# Altium schematic symbol library Analog.SchLib: 140 symbols (part 2 of 2)
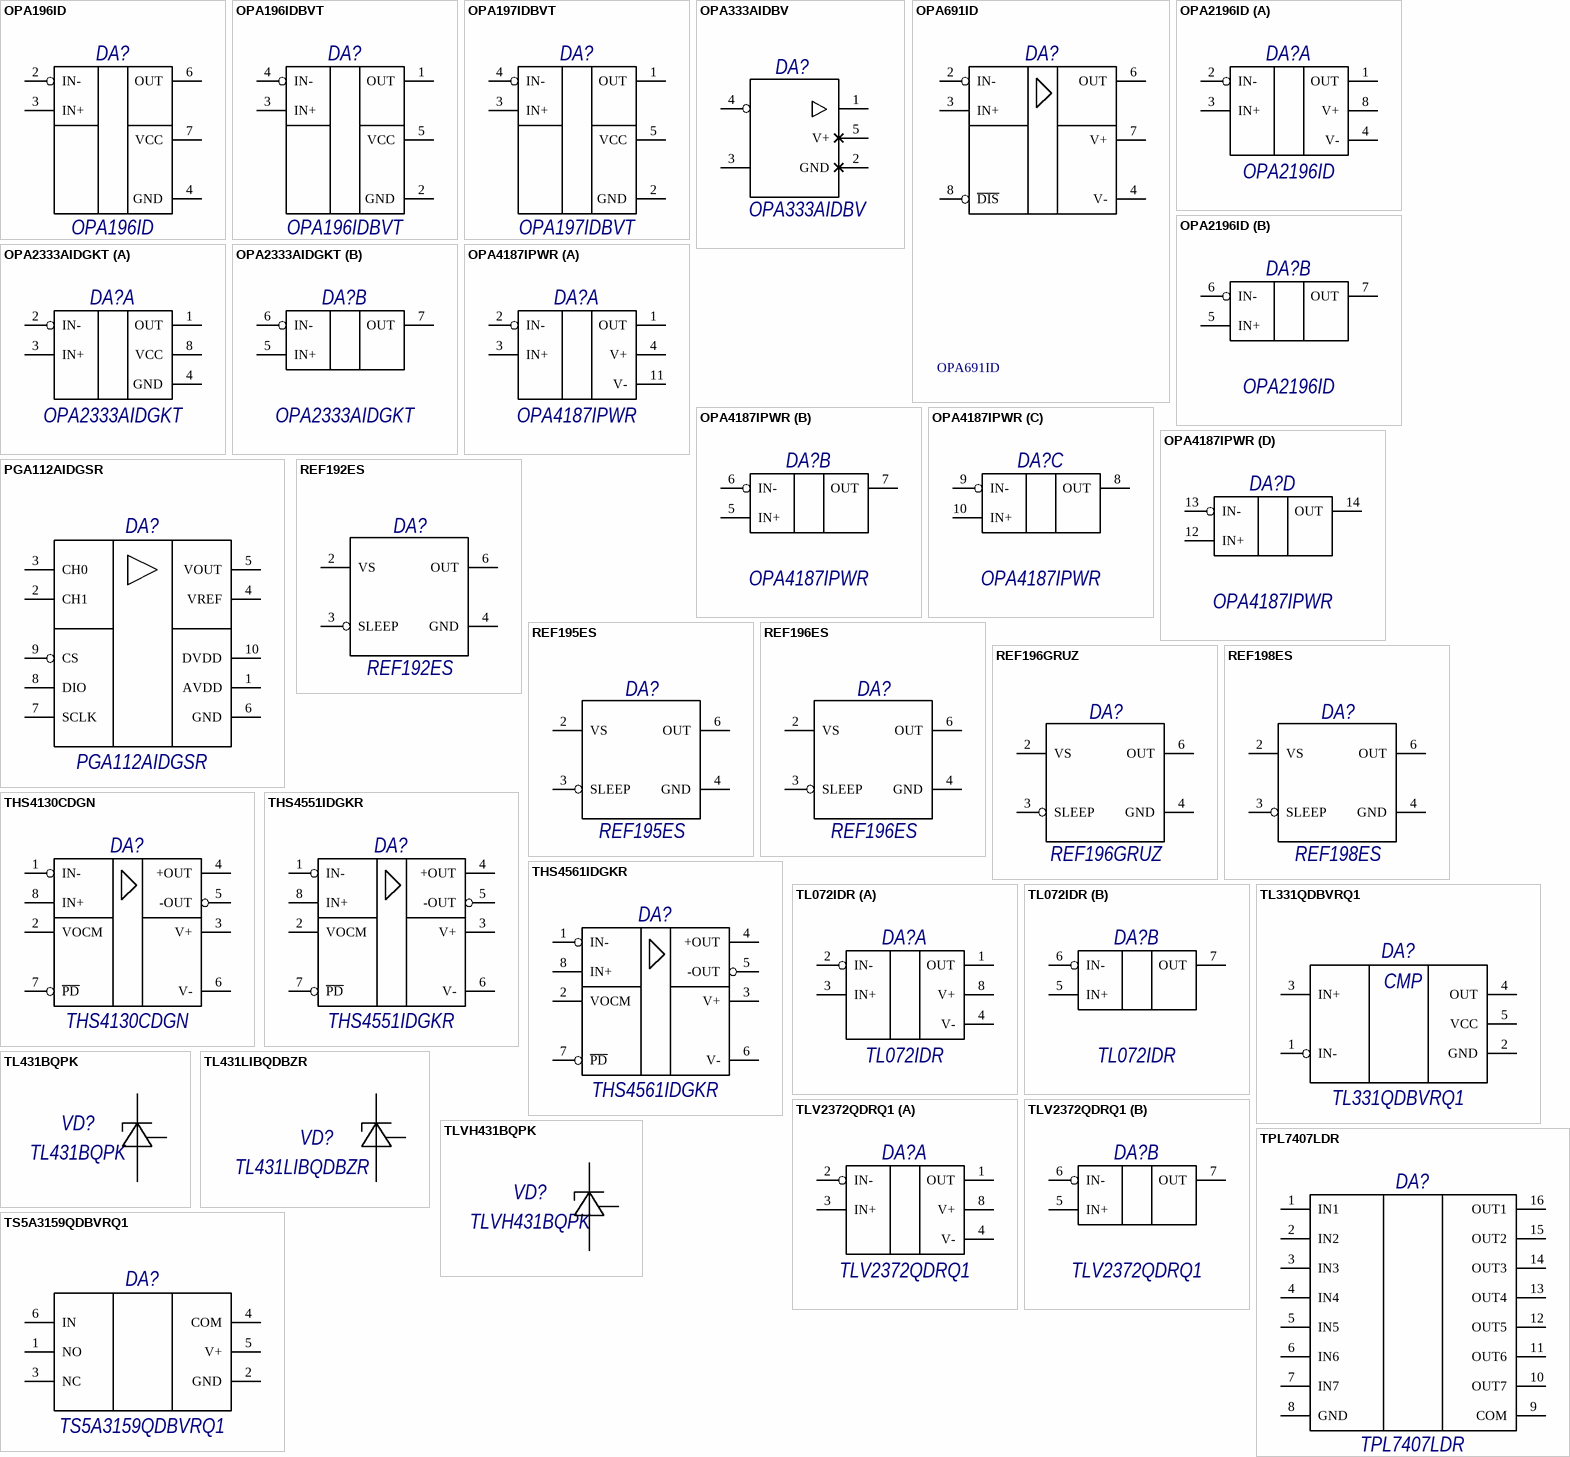
[diagram p9: symbols OPA196ID to TS5A3159QDBVRQ1]

## OPA197IDBVT
designator DA?, comment PartNumber: OPA197IDBVT  (hidden comment: Микросхема OPA197IDBVT фирма "Texas Instruments")
General Purpose Amplifier 1 Circuit Rail-to-Rail SOT-23-5; Prefix: DA; Manufacturer: Texas Instruments; Pattern: SOT-23-5; GOST: Микросхема OPA197IDBVT фирма "Texas Instruments"
footprint SOT-23-5
footprint SOT-23-5
pins: 1 OUT, 2 GND (power), 3 IN+, 4 IN-, 5 VCC (power)

## OPA333AIDBV
designator DA?, comment PartNumber: OPA333AIDBV  (hidden comment: Микросхема OPA333AIDBV фирма "Texas Instruments")
0.05  μ  V/  °  C max, SINGLE-SUPPLY  CMOS OPERATIONAL AMPLIFIERS  Zerø-Drift Series; GOST: Микросхема OPA333AIDBV фирма "Texas Instruments"
footprint SOT-23-5
pins: 1, 2 GND, 3, 4, 5 V+

## OPA691ID
designator DA?, comment PartNumber: OPA691ID  (hidden comment: Микросхема OPA691ID фирма "Texas Instruments")
Wideband, Current Feedback, Amplifier With Disable; Pattern: SO8; Manufacturer: Texas Instruments; GOST: Микросхема OPA691ID фирма "Texas Instruments"
footprint SO-8 (5x4mm H=1.75mm)
pins: 1 NC hidden, 2 IN-, 3 IN+, 4 V-, 5 NC hidden, 6 OUT, 7 V+, 8 ~{DIS}

## OPA2196ID
designator DA?, comment PartNumber: OPA2196ID  (hidden comment: Микросхема OPA2196ID фирма "Texas Instruments")
36V, Low Power, All-Purpose Amplifier with MUX-Friendly Input 8-SOIC -40 to 125; Pattern: SO-8; Prefix: DA; Manufacturer: Texas Instruments; GOST: Микросхема OPA2196ID фирма "Texas Instruments"
footprint SO-8 (5x4mm H=1.75mm)
part A pins: 1 OUT, 2 IN-, 3 IN+, 4 V- (power), 8 V+ (power)
part B pins: 5 IN+, 6 IN-, 7 OUT

## OPA2333AIDGKT
designator DA?, comment PartNumber: OPA2333AIDGKT  (hidden comment: Микросхема OPA2333AIDGKT фирма "Texas Instruments")
Dual, Precision Rail-to-Rail Input & Output Operational Amplifiers, 0.35MHz, zero drift; Prefix: DA; GOST: Микросхема OPA2333AIDGKT фирма "Texas Instruments"
footprint DGK (S-PDSO-G8) (VSSOP-8 (MSOP-8) Texas Instruments Korp=3.1x3.1mm Pitch 0.65mm)
part A pins: 1 OUT, 2 IN-, 3 IN+, 4 GND (power), 8 VCC (power)
part B pins: 5 IN+, 6 IN-, 7 OUT

## OPA4187IPWR
designator DA?, comment PartNumber: OPA4187IPWR  (hidden comment: Микросхема OPA4187IPWR фирма "Texas Instruments")
0.001-μV/°C Drift, Low Power,Rail-to-Rail Output 36-V Operational Amplifiers Zero-DriftSeries; Prefix: DA; GOST: Микросхема OPA4187IPWR фирма "Texas Instruments"
footprint PW (R-PDSO-G14) (TSSOP-14, 6.6x5.1mm, pitch 0.65mm, H=1.2mm)
part A pins: 1 OUT, 2 IN-, 3 IN+, 4 V+ (power), 11 V- (power)
part B pins: 5 IN+, 6 IN-, 7 OUT
part C pins: 8 OUT, 9 IN-, 10 IN+
part D pins: 12 IN+, 13 IN-, 14 OUT

## PGA112AIDGSR
designator DA?, comment PartNumber: PGA112AIDGSR  (hidden comment: Микросхема PGA112AIDGSR фирма "Texas Instruments")
Zerø-Drift Programmable Gain Amplifier With Mux; GOST: Микросхема PGA112AIDGSR фирма "Texas Instruments"
footprint DGS (S-PDSO-G10) (VSSOP-10 (MSOP-10) Texas Instruments)
pins: 1 AVDD, 2 CH1, 3 CH0, 4 VREF, 5 VOUT, 6 GND, 7 SCLK, 8 DIO, 9 CS, 10 DVDD

## REF192ES
designator DA?, comment PartNumber: REF192ES  (hidden comment: Микросхема REF192ES фирма "Analog Devices")
2.5V Prec Micropwr LDO Low VRef; GOST: Микросхема REF192ES фирма "Analog Devices"
footprint SO-8 (5x4mm H=1.75mm)
pins: 2 VS, 3 SLEEP, 4 GND, 6 OUT

## REF195ES
designator DA?, comment PartNumber: REF195ES  (hidden comment: Микросхема REF195ES фирма "Analog Devices")
5V Prec Micropwr LDO Low VRef; GOST: Микросхема REF195ES фирма "Analog Devices"
footprint SO-8 (5x4mm H=1.75mm)
pins: 2 VS, 3 SLEEP, 4 GND, 6 OUT

## REF196ES
designator DA?, comment PartNumber: REF196ES  (hidden comment: Микросхема REF196ES фирма "Analog Devices")
3.3V Prec Micropwr LDO Low VRef; GOST: Микросхема REF196ES фирма "Analog Devices"
footprint SO-8 (5x4mm H=1.75mm)
pins: 2 VS, 3 SLEEP, 4 GND, 6 OUT

## REF196GRUZ
designator DA?, comment PartNumber: REF196GRUZ  (hidden comment: Микросхема REF196GRUZ фирма "Analog Devices")
Series Voltage Reference IC ±0.3% 30mA 8-TSSOP; GOST: Микросхема REF196GRUZ фирма "Analog Devices"
footprint TSSOP-8 (3.0x6.4mm H=1.2mm Pitch=0.65mm (RU-8 (AD)))
pins: 2 VS, 3 SLEEP, 4 GND, 6 OUT

## REF198ES
designator DA?, comment PartNumber: REF198ES  (hidden comment: Микросхема REF198ES фирма "Analog Devices")
4.096V Prec Micropwr LDO Low VRef; GOST: Микросхема REF198ES фирма "Analog Devices"
footprint SO-8 (5x4mm H=1.75mm)
pins: 2 VS, 3 SLEEP, 4 GND, 6 OUT

## THS4130CDGN
designator DA?, comment PartNumber: THS4130CDGN  (hidden comment: Микросхема THS4130CDGN фирма "Texas Instruments")
High-Speed, Low-Noise, Fully-Differential I/O Amplifier; Pattern: VSSOP8; Prefix: D?; Manufacturer: Texas Instruments; GOST: Микросхема THS4130CDGN фирма "Texas Instruments"
footprint DGN (S-PDSO-G8) (3.1x3.1mm, HVSSOP-8, MSOP-8 Power PAD, Texas Instruments)
pins: 1 IN-, 2 VOCM, 3 V+, 4 +OUT, 5 -OUT, 6 V-, 7 ~{PD}, 8 IN+

## THS4551IDGKR
designator DA?, comment PartNumber: THS4551IDGKR  (hidden comment: Микросхема THS4551IDGKR фирма "Texas Instruments")
Low-Noise,Precision,150-MHz,Fully DifferentialAmplifier; Pattern: VSSOP8; Prefix: D?; Manufacturer: Texas Instruments; GOST: Микросхема THS4551IDGKR фирма "Texas Instruments"
footprint DGK (S-PDSO-G8) (VSSOP-8 (MSOP-8) Texas Instruments Korp=3.1x3.1mm Pitch 0.65mm)
pins: 1 IN-, 2 VOCM, 3 V+, 4 +OUT, 5 -OUT, 6 V-, 7 ~{PD}, 8 IN+

## THS4561IDGKR
designator DA?, comment PartNumber: THS4561IDGKR  (hidden comment: Микросхема THS4561IDGKR фирма "Texas Instruments")
Low-Power, High Supply Range, 60-MHz, Fully Differential Amplifier; Pattern: VSSOP8; Prefix: D?; Manufacturer: Texas Instruments; GOST: Микросхема THS4561IDGKR фирма "Texas Instruments"
footprint DGK (S-PDSO-G8) (VSSOP-8 (MSOP-8) Texas Instruments Korp=3.1x3.1mm Pitch 0.65mm)
pins: 1 IN-, 2 VOCM, 3 V+, 4 +OUT, 5 -OUT, 6 V-, 7 ~{PD}, 8 IN+

## TL072IDR
designator DA?, comment PartNumber: TL072IDR  (hidden comment: Микросхема TL072IDR фирма "Texas Instruments")
Low-Noise FET-Input Operational Amplifiers, 8-SOIC, -40 to 125; Pattern: SO-8; Prefix: DA; Manufacturer: Texas Instruments; GOST: Микросхема TL072IDR фирма "Texas Instruments"
footprint SO-8 (5x4mm H=1.75mm)
part A pins: 1 OUT, 2 IN-, 3 IN+, 4 V- (power), 8 V+ (power)
part B pins: 5 IN+, 6 IN-, 7 OUT

## TL331QDBVRQ1
designator DA?, comment PartNumber: TL331QDBVRQ1  (hidden comment: Микросхема TL331QDBVRQ1 фирма "Texas Instruments")
Comparator Differential CMOS, MOS, Open-Collector, TTL SOT-23-5; GOST: Микросхема TL331QDBVRQ1 фирма "Texas Instruments"
footprint SOT-23-5
pins: 1 IN-, 2 GND, 3 IN+, 4 OUT, 5 VCC
text: CMP

## TL431BQPK
designator VD?
IC VREF SHUNT ADJ SOT89-3; Manufacturer: Texas Instruments; Voltage - Output (Max): 36V; Voltage - Output (Min/Fixed): 2.495V; Tolerance: ±0.5%; GOST: Стабилитрон TL431BQPK фирма "Texas Instruments"; PartNumber: TL431BQPK
footprint PK (R-PSSO-F3) (Dim 4.5mm*2.5mm H=1.6mm (SOT-89) TI)
pins: 1 2, 2 A, 3 C

## TL431LIBQDBZR
designator VD?, comment PartNumber: TL431LIBQDBZR  (hidden comment: Стабилитрон TL431LIBQDBZR фирма "Texas Instruments")
Programmable Shunt Regulator with Optimized Reference Current, SOT-23-3; Voltage - Output (Max): 36V; Voltage - Output (Min/Fixed): 2.495V; Tolerance: ±0.5%; Manufacturer: Texas Instruments; GOST: Стабилитрон TL431LIBQDBZR фирма "Texas Instruments"
footprint SOT-23-3 (Dim 3mm*1.4mm H=1.1mm)
pins: 1 C, 2 REF, 3 A

## TLV2372QDRQ1
designator DA?, comment PartNumber: TLV2372QDRQ1  (hidden comment: Микросхема TLV2372QDRQ1 фирма "Texas Instruments")
General Purpose Amplifier 2 Circuit Rail-to-Rail 8-SOIC; Prefix: DA; Manufacturer: Texas Instruments; GOST: Микросхема TLV2372QDRQ1 фирма "Texas Instruments"
footprint SO-8 (5x4mm H=1.75mm)
part A pins: 1 OUT, 2 IN-, 3 IN+, 4 V- (power), 8 V+ (power)
part B pins: 5 IN+, 6 IN-, 7 OUT

## TLVH431BQPK
designator VD?, comment PartNumber: TLVH431BQPK  (hidden comment: Стабилитрон TLVH431BQPK фирма "Texas Instruments")
Shunt Voltage Reference IC 18V ±0.5% SOT-89-3; Voltage - Output (Min/Fixed): 1.24V; Cathode current, min: 100 uA; Cathode current. max: 70 мА; Manufacturer: Texas Instruments; Voltage - Output (Max): 18V; Tolerance: ±0.5%; GOST: Стабилитрон TLVH431BQPK фирма "Texas Instruments"
footprint PK (R-PSSO-F3) (Dim 4.5mm*2.5mm H=1.6mm (SOT-89) TI)
pins: 1 REF, 2 A, 3 C

## TPL7407LDR
designator DA?, comment PartNumber: TPL7407LDR  (hidden comment: Микросхема TPL7407LDR фирма "Texas Instruments")
Power Switch/Driver 1:1 N-Channel 500mA 16-SOIC; Manufacturer: Texas Instruments; GOST: Микросхема TPL7407LDR фирма "Texas Instruments"
footprint D (R-PDSO-G16) (10x6.2mm H=1.75mm (SO-16) TI)
pins: 1 IN1, 2 IN2, 3 IN3, 4 IN4, 5 IN5, 6 IN6, 7 IN7, 8 GND, 9 COM, 10 OUT7, 11 OUT6, 12 OUT5, 13 OUT4, 14 OUT3, 15 OUT2, 16 OUT1

## TS5A3159QDBVRQ1
designator DA?, comment PartNumber: TS5A3159QDBVRQ1  (hidden comment: Микросхема TS5A3159QDBVRQ1 фирма "Texas Instruments")
1 Circuit IC Switch 2:1 1.3Ohm SOT-23-6; Pattern: SOT23-6; GOST: Микросхема TS5A3159QDBVRQ1 фирма "Texas Instruments"
footprint SOT-23-6
pins: 1 NO, 2 GND, 3 NC, 4 COM, 5 V+, 6 IN

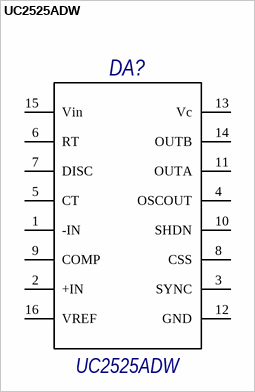
[diagram p8: symbol UC2525ADW]

## UC2525ADW
designator DA?, comment PartNumber: UC2525ADW  (hidden comment: Микросхема UC2525ADW фирма "Texas Instruments")
Regulating Pulse Width Modulator; GOST: Микросхема UC2525ADW фирма "Texas Instruments"
footprint SOL-16 (10.5x10.65mm H=2.65mm Wide body)
pins: 1 -IN, 2 +IN, 3 SYNC, 4 OSCOUT, 5 CT, 6 RT, 7 DISC, 8 CSS, 9 COMP, 10 SHDN, 11 OUTA, 12 GND, 13 Vc, 14 OUTB, 15 Vin, 16 VREF